# EAGLE library part ENCODER_ARROWS (library dt)
Rottary encoder with center button and four arrows.
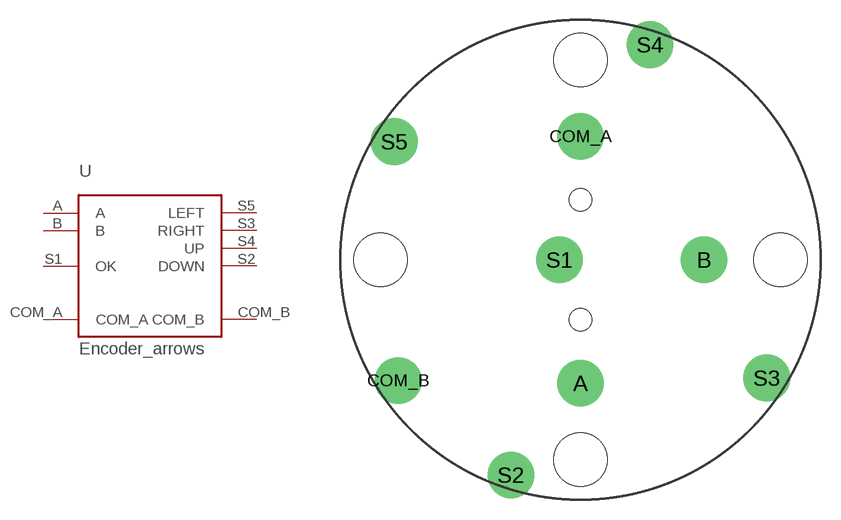
[diagram p0: symbol with the pads of ENCODER_ARROWS; footprint ENCODER_ARROWS]

Designator prefix -

## ENCODER_ARROWS  [ENCODER_ARROWS]
A  A
B  B
COM_A  COM_A
COM_B  COM_B
S1  OK
S2  DOWN
S3  RIGHT
S4  UP
S5  LEFT

## Footprint ENCODER_ARROWS (pad centres in mm)
Rottary encoder with center button and four arrows.
drill 1.5 pad 3.5: A 0,-9.26; B 9.26,0; COM_A 0,9.26; COM_B -13.67,-9.07; S1 -1.57,0; S2 -5.22,-16.15; S3 13.97,-8.87; S4 5.22,16.15; S5 -13.97,8.87
hole 4 at 0,-15
hole 4 at 0,15
hole 1.7 at 0,4.5
hole 1.7 at 0,-4.5
hole 4 at -15,0
hole 4 at 15,0